# EAGLE library part KXN_HM-10 (library kxn_Standard_wireless_module)
HM Bluetooth module use TI CC2540 or CC2541, Master and slave roles in one, transmission version and remote control version and PIO state acquisition functions in one, Support the AT command modify module parameters, Convenient and flexible.
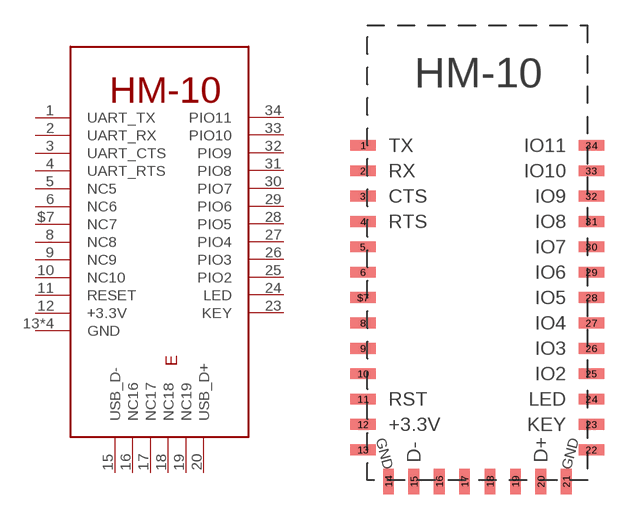
[diagram p0: symbol with the pads of HM_10_PINOUT; footprint HM_10_PINOUT]

Designator prefix E

## KXN_HM-10-BOARD  [HM_10_PINOUT]
1  UART_TX
2  UART_RX
3  UART_CTS
4  UART_RTS
5  NC5
6  NC6
8  NC8
9  NC9
10  NC10
11  RESET
12  +3.3V  pwr
13  GND  pwr
14  GND  pwr
15  USB_D-
16  NC16
17  NC17
18  NC18
19  NC19
20  USB_D+
21  GND  pwr
22  GND  pwr
23  KEY
24  LED
25  PIO2
26  PIO3
27  PIO4
28  PIO5
29  PIO6
30  PIO7
31  PIO8
32  PIO9
33  PIO10
34  PIO11
$7  NC7

## Footprint HM_10_PINOUT (pad centres in mm)
HM-01, HM-02, HM-09, HM-10 have same size and same pins. 26.9mm x 13mm x 2.2 mm
smd 1.5 x 0.635: 1 -6.75,10.15; 2 -6.75,8.65; 3 -6.75,7.15; 4 -6.75,5.65; 5 -6.75,4.15; 6 -6.75,2.65; 8 -6.75,-0.35; 9 -6.75,-1.85; 10 -6.75,-3.35; 11 -6.75,-4.85; 12 -6.75,-6.35; 13 -6.75,-7.85; 22 6.75,-7.85; 23 6.75,-6.35; 24 6.75,-4.85; 25 6.75,-3.35; 26 6.75,-1.85; 27 6.75,-0.35; 28 6.75,1.15; 29 6.75,2.65; 30 6.75,4.15; 31 6.75,5.65; 32 6.75,7.15; 33 6.75,8.65; 34 6.75,10.15; $7 -6.75,1.15
smd 0.635 x 1.5: 14 -5.25,-9.725; 15 -3.75,-9.725; 16 -2.25,-9.725; 17 -0.75,-9.725; 18 0.75,-9.725; 19 2.25,-9.725; 20 3.75,-9.725; 21 5.25,-9.725